# EAGLE library part DE-9_DB-9 (library Generic footprints)
DE-9 (aka DB-9) PCB header The actual descriptor for this connector is DE-9 (shell size DE, 9 positions), but it is commonly referred to as DB-9.
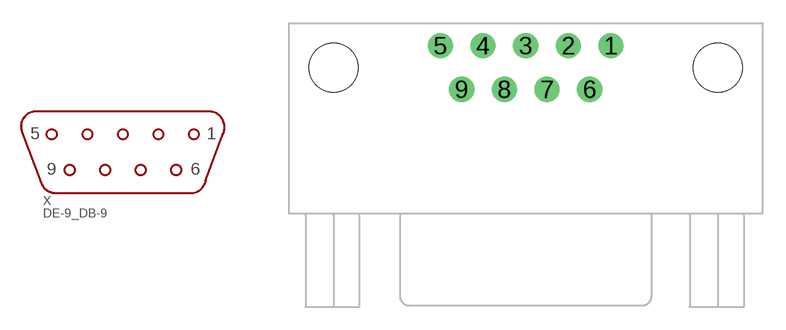
[diagram p3: symbol with the pads of DE-9_RA; footprint DE-9_RA]

Designator prefix X

## DE-9_DB-9-RCPT-RA (PARTNO: 1734354-1)  [DE-9_RA]
1  1
2  2
3  3
4  4
5  5
6  6
7  7
8  8
9  9

## Footprint DE-9_RA (pad centres in mm)
DE-9 (DB-9) connector, female, right-angle, PCB mount These footprints are nearly standard, but this one is based off TE p/n 1734354-1. Datasheet: http://www.te.com/commerce/DocumentDelivery/DDEController?Action=srchrtrv&DocNm=1734354&DocType=Customer+Drawing&DocLang=English
drill 1.09 round: 1 5.54,0; 2 2.77,0; 3 0,0; 4 -2.77,0; 5 -5.54,0; 6 4.155,-2.84; 7 1.385,-2.84; 8 -1.385,-2.84; 9 -4.155,-2.84
hole 3.18 at -12.495,-1.42
hole 3.18 at 12.495,-1.42